# Altium schematic symbol library PCBGame.SchLib: 2 symbols
Pins are listed as number, name and electrical type; pins without a type are passive.

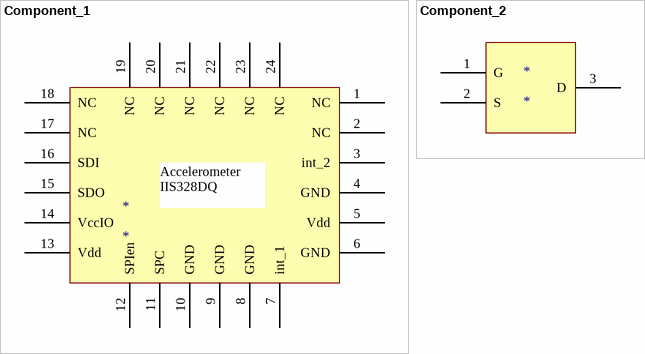
[diagram p0: symbols Component_1 to Component_2]

## Component_1
designator *
footprint accelerometer (QFN, 24-Leads, Body 4.00x4.00mm, Pitch 0.50mm, Thermal Pad 2.85x2.85mm, IPC Medium Density)
pins: 1 NC, 2 NC, 3 int_2 "inertial interrupt 2", 4 GND, 5 Vdd, 6 GND, 7 int_1 "inertial interrupt 1", 8 GND, 9 GND, 10 GND, 11 SPC "serial clock", 12 SPIen "SPI enable", 13 Vdd "connected to Vcc", 14 VccIO "VccI/O", 15 SDO "data out", 16 SDI "data in", 17 NC, 18 NC, 19 NC, 20 NC, 21 NC, 22 NC, 23 NC, 24 NC
text: Accelerometer / IIS328DQ /

## Component_2
designator *
footprint SOT65P210X110-3N (SOT23, 3-Leads, Body 2.00x2.10mm, Pitch 0.65mm, IPC Medium Density)
pins: 1 G, 2 S, 3 D